# EAGLE library part ECH381V-09P-N (library My Library)
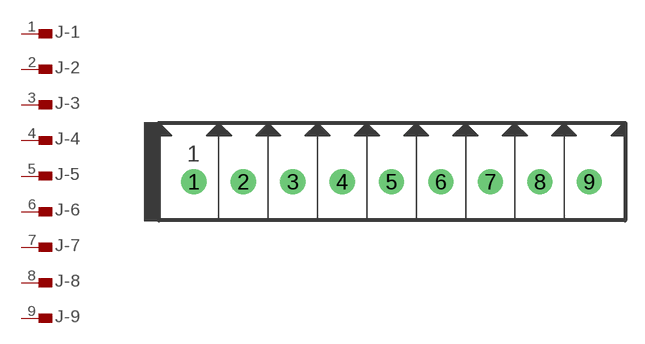
[diagram p0: symbol with the pads of ECH381V-09P-N; footprint ECH381V-09P-N]

Designator prefix J; gates -1=PIN -2=PIN -3=PIN -4=PIN -5=PIN -6=PIN -7=PIN -8=PIN -9=PIN

## ECH381V-09P-N  [ECH381V-09P-N]
1  -1:1  pas
2  -2:1  pas
3  -3:1  pas
4  -4:1  pas
5  -5:1  pas
6  -6:1  pas
7  -7:1  pas
8  -8:1  pas
9  -9:1  pas

## Footprint ECH381V-09P-N (pad centres in mm)
drill 1.3 round: 1 -15.24,0; 2 -11.43,0; 3 -7.62,0; 4 -3.81,0; 5 0,0; 6 3.81,0; 7 7.62,0; 8 11.43,0; 9 15.24,0